# EAGLE library part PCM1702U (library burr-brown-5a)
BiCMOS Advanced Sign Magnitude 20-Bit DAC
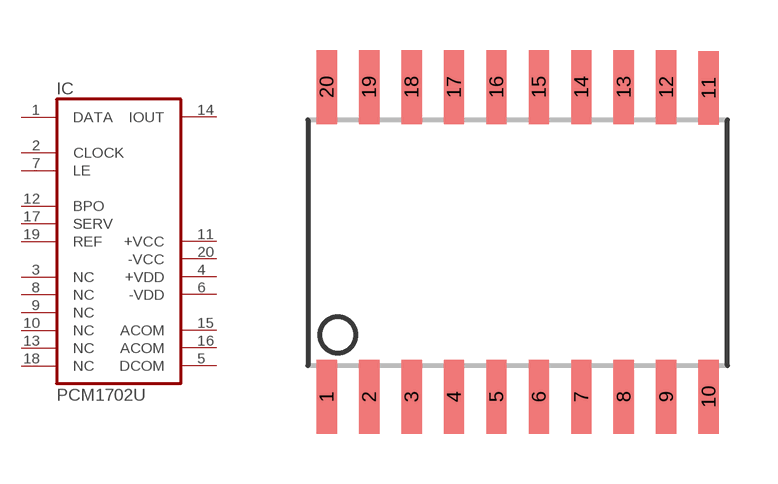
[diagram p105: symbol with the pads of SO20L; footprint SO20L]

Designator prefix IC

## PCM1702U  [SO20L]
1  DATA  in
2  CLOCK  in
3  NC  nc
4  +VDD  pwr
5  DCOM  pwr
6  -VDD  pwr
7  LE  in
8  NC  nc
9  NC  nc
10  NC  nc
11  +VCC  pwr
12  BPO  pas
13  NC  nc
14  IOUT  out
15  ACOM  pwr
16  ACOM  pwr
17  SERV  pas
18  NC  nc
19  REF  pas
20  -VCC  pwr

## Footprint SO20L (pad centres in mm)
Small Outline Package, large
smd 0.61 x 2.21: 1 -5.715,-4.636; 2 -4.445,-4.636; 3 -3.175,-4.636; 4 -1.905,-4.636; 5 -0.635,-4.636; 6 0.635,-4.636; 7 1.905,-4.636; 8 3.175,-4.636; 9 4.445,-4.636; 10 5.715,-4.636; 11 5.715,4.61; 12 4.445,4.636; 13 3.175,4.636; 14 1.905,4.636; 15 0.635,4.636; 16 -0.635,4.636; 17 -1.905,4.636; 18 -3.175,4.636; 19 -4.445,4.636; 20 -5.715,4.636